# EAGLE library part LM4871 (library greg)
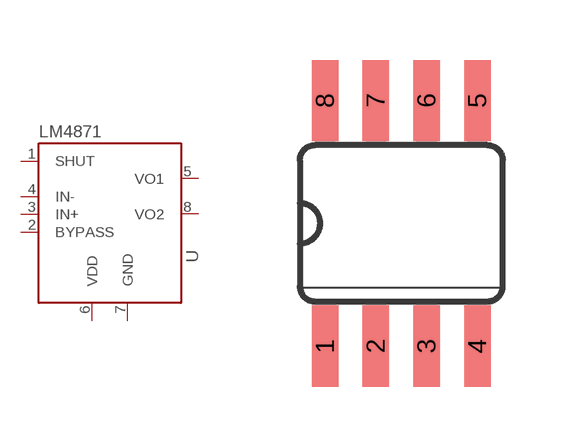
[diagram p6: symbol with the pads of SOIC8; footprint SOIC8]

Designator prefix -

## LM4871SOIC8  [SOIC8]
1  SHUT  pwr
2  BYPASS
3  IN+
4  IN-
5  VO1
6  VDD
7  GND  pwr
8  VO2

## Footprint SOIC8 (pad centres in mm)
smd 0.66 x 2.032: 1 -1.905,-3.073; 2 -0.635,-3.073; 3 0.635,-3.073; 4 1.905,-3.073; 5 1.905,3.073; 6 0.635,3.073; 7 -0.635,3.073; 8 -1.905,3.073